# Altium schematic symbol library Header 8.SchLib: 1 symbol
Pins are listed as number, name and electrical type; pins without a type are passive.

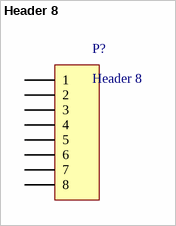
[diagram p0: symbol Header 8]

## Header 8
designator P?
footprint Header 8
pins: 1, 2, 3, 4, 5, 6, 7, 8